# Altium schematic symbol library rs485-422.SchLib: 51 symbols
Pins are listed as number, name and electrical type; pins without a type are passive.

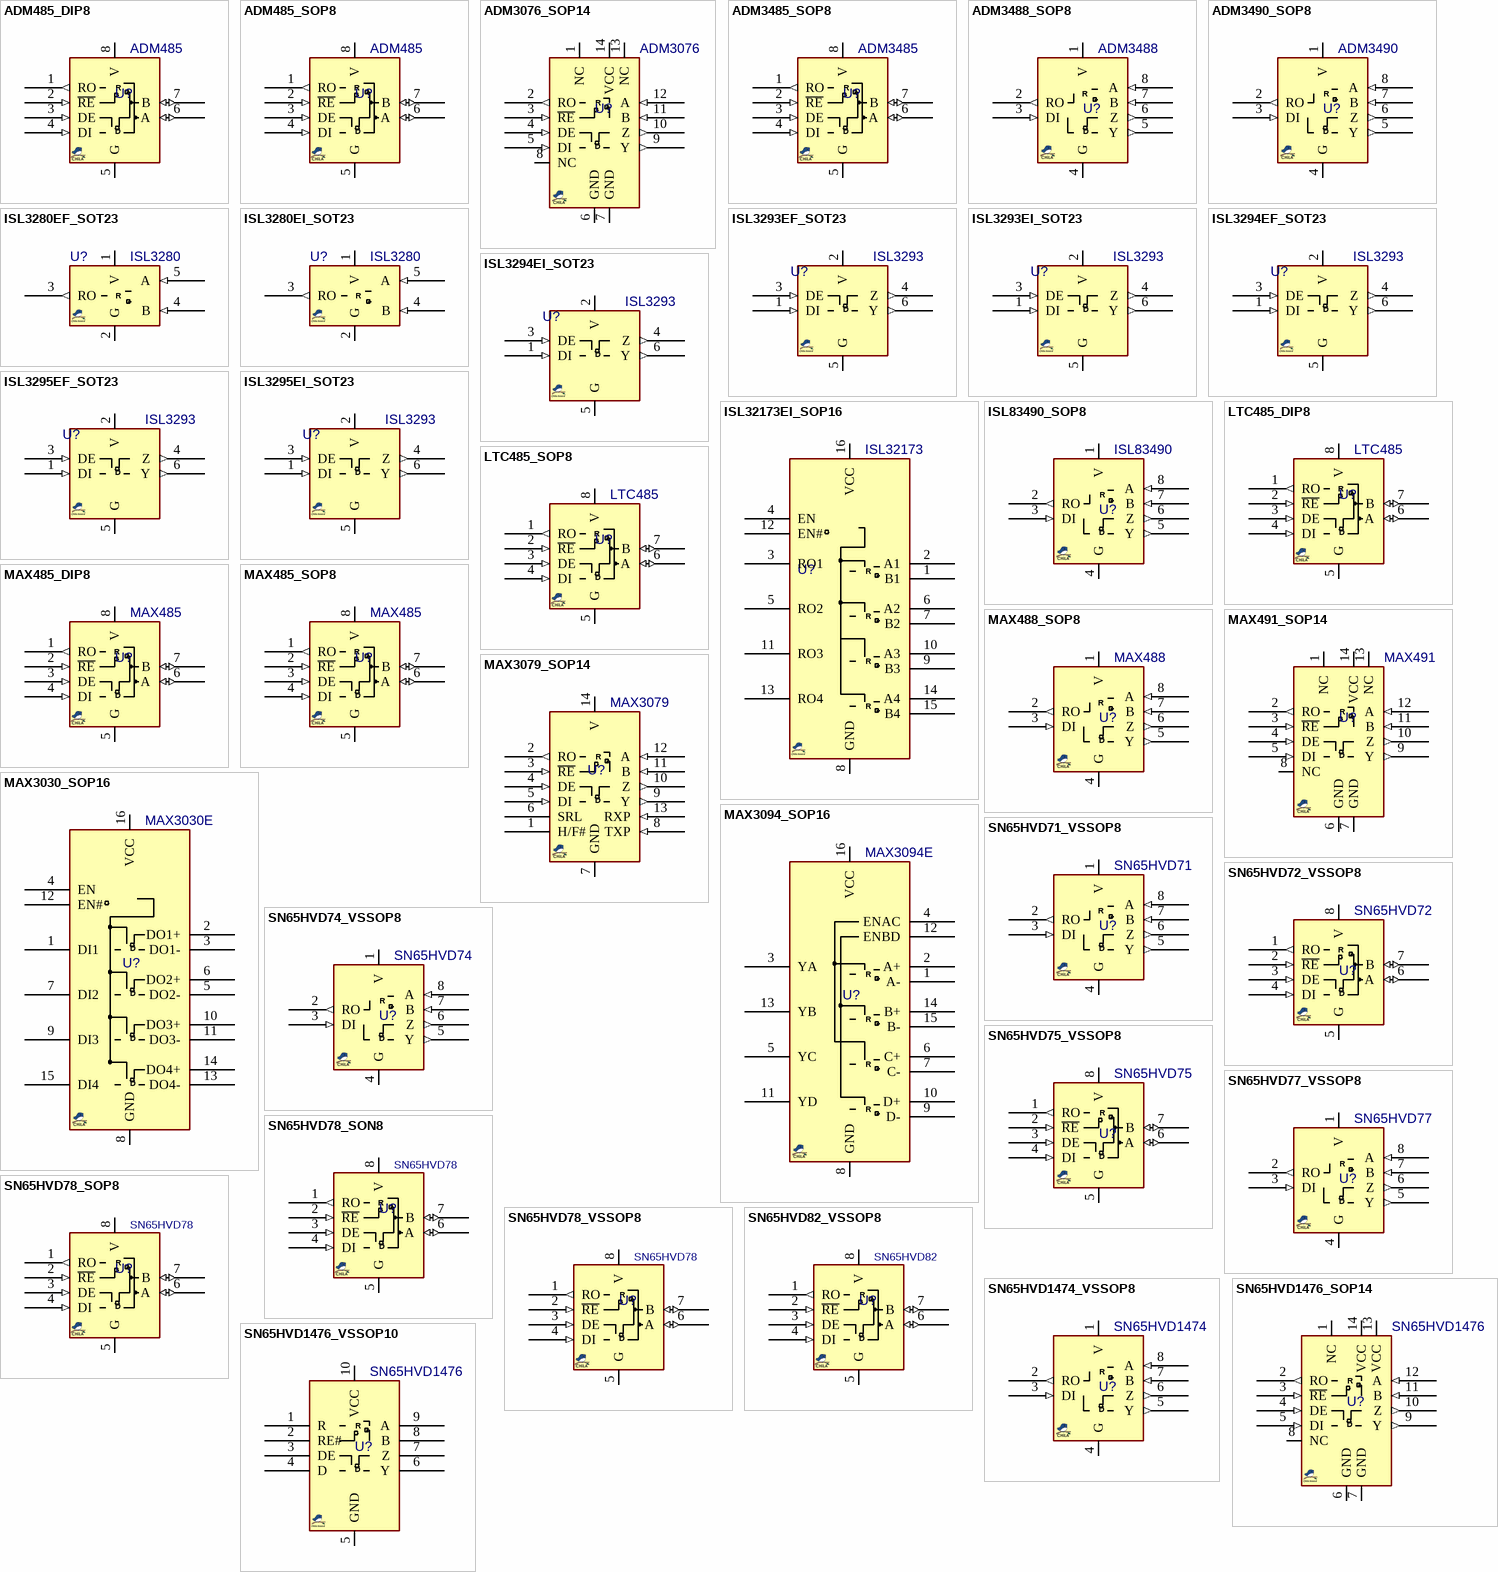
[diagram p0: symbols ADM485_DIP8 to SN65HVD1476_VSSOP10]

## ADM485_DIP8
designator U?, comment ADM485
RS-485 Transceiver, Half-Duplex, 5V, DIP-8, ±7V Ground Difference Between Devices on the Bus; MANF_P#: ADM485AN; MANF: Analog Devices; PARAM: 5Mbps, - , -; PRICE: 4000toman@PAYA; PARAM2: 5v; PACKAGE: DIP-8; VALUE: ADM485
footprint DIP_8 (DIP, pitch 2.54mm, 300mil Width)
pins: 1 RO (out), 2 ~{RE} (in), 3 DE (in), 4 DI (in), 5 G, 6 A (io), 7 B (io), 8 V
text: R; D

## ADM485_SOP8
designator U?, comment ADM485
RS-485 Transceiver, Half-Duplex, 5V, SOP-8, ±7V Ground Difference Between Devices on the Bus; MANF_P#: ADM485AR; MANF: Analog Devices; PARAM: 5Mbps, - , -; PRICE: 4000toman@PAYA; PARAM2: 5v; PACKAGE: SOP-8; VALUE: ADM485
footprint SO_8
pins: 1 RO (out), 2 ~{RE} (in), 3 DE (in), 4 DI (in), 5 G, 6 A (io), 7 B (io), 8 V
text: R; D

## ADM3076_SOP14
designator U?, comment ADM3076
RS-485/RS-422 Transceiver, Full-Duplex; MANF_P#: ADM3076EARZ; MANF: Maxim Integrated; PARAM2: 3.3v, -40~125°C; PARAM: 16Mbps, -, 32nodes; PACKAGE: SOP-14; VALUE: ADM3076
footprint SO_14
pins: 1 NC, 2 RO (out), 3 ~{RE} (in), 4 DE (in), 5 DI (in), 6 GND (power), 7 GND (power), 8 NC, 9 Y (out), 10 Z (out), 11 B (in), 12 A (in), 13 NC, 14 VCC (power)
text: R; D

## ADM3485_SOP8
designator U?, comment ADM3485
RS-485 Transceiver, Half-Duplex, 3.3V; MANF_P#: ADM3485EARZ; MANF: Analog Devices; PARAM: 10Mbps, -, 32nodes, -40~85°C; PRICE: 600toman@PAYA; PARAM2: 3.3v; PACKAGE: SOP-8; VALUE: ADM3485
footprint SO_8
pins: 1 RO (out), 2 ~{RE} (in), 3 DE (in), 4 DI (in), 5 G, 6 A (io), 7 B (io), 8 V
text: R; D

## ADM3488_SOP8
designator U?, comment ADM3488
RS-485/RS-422 Transceiver, Full-Duplex; MANF_P#: ADM3488EARZ; MANF: Analog Devices; PARAM2: 3.3V; PARAM: 250Kbps, -, 32nodes, -40~85°C; PRICE: 16000toman@PAYA; PACKAGE: SOP-8; VALUE: ADM3488
footprint SO_8
pins: 1 V (power), 2 RO (out), 3 DI (in), 4 G (power), 5 Y (out), 6 Z (out), 7 B (in), 8 A (in)
text: R; D

## ADM3490_SOP8
designator U?, comment ADM3490
RS-485/RS-422 Transceiver, Full-Duplex; MANF_P#: ADM3490EARZ; MANF: Analog Devices; PARAM2: 3.3V; PARAM: 10Mbps, -, 32nodes, -40~85°C; PRICE: 3.5$; PACKAGE: SOP-8; VALUE: ADM3490
footprint SO_8
pins: 1 V (power), 2 RO (out), 3 DI (in), 4 G (power), 5 Y (out), 6 Z (out), 7 B (in), 8 A (in)
text: R; D

## ISL3280EF_SOT23
designator U?, comment ISL3280
RS-422 Receiver, -7V~+12V; MANF: Intersil; MANF_P#: ISL3280EFHZ; PARAM2: 3~5.5VCC, -40~125°C; PARAM: 20Mbps, ±16.5kV, 256nodes; PACKAGE: SOT-23-5; VALUE: ISL3280
footprint SOT23_5 (SOT-23-5, SOT25, SOT-25, DBV(R-PDSO-G5), TSOT23-5, SC-74A, SOT23-5, S5-T (LINEAR), MO-178AA, MO-193AB(JEDEC), MF05A (NS), TSOP-6(ON), UJ-5 (AD))
pins: 1 V (power), 2 G (power), 3 RO (out), 4 B (in), 5 A (in)
text: R

## ISL3280EI_SOT23
designator U?, comment ISL3280
RS-422 Receiver, -7V~+12V; MANF: Intersil; MANF_P#: ISL3280EIHZ; PARAM2: 3~5.5VCC, -40~85°C; PARAM: 20Mbps, ±16.5kV, 256nodes; PACKAGE: SOT-23-5; VALUE: ISL3280
footprint SOT23_5 (SOT-23-5, SOT25, SOT-25, DBV(R-PDSO-G5), TSOT23-5, SC-74A, SOT23-5, S5-T (LINEAR), MO-178AA, MO-193AB(JEDEC), MF05A (NS), TSOP-6(ON), UJ-5 (AD))
pins: 1 V (power), 2 G (power), 3 RO (out), 4 B (in), 5 A (in)
text: R

## ISL3293EF_SOT23
designator U?, comment ISL3293
RS-422 Transmitter, -7~+12V, 0.25Mbps; MANF: Intersil; MANF_P#: ISL3293EFHZ; PARAM2: 3~5.5VCC, -40~125°C; PARAM: 0.25Mbps, ±16.5kV, 256nodes; PACKAGE: SOT-23-6; VALUE: ISL3293
footprint SOT23_6 (SOT-23-6, MICRO6, SOT-26, SOT457, SuperSOT6, TSOP-6, HMC313, MO-178AB, MO-193AA, TSOT)
pins: 1 DI (in), 2 V (power), 3 DE (in), 4 Z (out), 5 G (power), 6 Y (out)
text: D

## ISL3293EI_SOT23
designator U?, comment ISL3293
RS-422 Transmitter, -7~+12V, 0.25Mbps; MANF: Intersil; MANF_P#: ISL3293EIHZ; PARAM2: 3~5.5VCC, -40~85°C; PARAM: 0.25Mbps, ±16.5kV, 256nodes; PACKAGE: SOT-23-6; VALUE: ISL3293
footprint SOT23_6 (SOT-23-6, MICRO6, SOT-26, SOT457, SuperSOT6, TSOP-6, HMC313, MO-178AB, MO-193AA, TSOT)
pins: 1 DI (in), 2 V (power), 3 DE (in), 4 Z (out), 5 G (power), 6 Y (out)
text: D

## ISL3294EF_SOT23
designator U?, comment ISL3293
RS-422 Transmitter, -7~+12V, 0.5Mbps; MANF: Intersil; MANF_P#: ISL3294EFHZ; PARAM2: 3~5.5VCC, -40~125°C; PARAM: 0.5Mbps, ±16.5kV, 256nodes; PACKAGE: SOT-23-6; VALUE: ISL3293
footprint SOT23_6 (SOT-23-6, MICRO6, SOT-26, SOT457, SuperSOT6, TSOP-6, HMC313, MO-178AB, MO-193AA, TSOT)
pins: 1 DI (in), 2 V (power), 3 DE (in), 4 Z (out), 5 G (power), 6 Y (out)
text: D

## ISL3294EI_SOT23
designator U?, comment ISL3293
RS-422 Transmitter, -7~+12V, 0.5Mbps; MANF: Intersil; MANF_P#: ISL3294EIHZ; PARAM2: 3~5.5VCC, -40~85°C; PARAM: 0.5Mbps, ±16.5kV, 256nodes; PACKAGE: SOT-23-6; VALUE: ISL3293
footprint SOT23_6 (SOT-23-6, MICRO6, SOT-26, SOT457, SuperSOT6, TSOP-6, HMC313, MO-178AB, MO-193AA, TSOT)
pins: 1 DI (in), 2 V (power), 3 DE (in), 4 Z (out), 5 G (power), 6 Y (out)
text: D

## ISL3295EF_SOT23
designator U?, comment ISL3293
RS-422 Transmitter, -7~+12V, 20Mbps; MANF: Intersil; MANF_P#: ISL3295EFHZ; PARAM2: 3~5.5VCC, -40~125°C; PARAM: 20Mbps, ±16.5kV, 256nodes; PACKAGE: SOT-23-6; VALUE: ISL3293
footprint SOT23_6 (SOT-23-6, MICRO6, SOT-26, SOT457, SuperSOT6, TSOP-6, HMC313, MO-178AB, MO-193AA, TSOT)
pins: 1 DI (in), 2 V (power), 3 DE (in), 4 Z (out), 5 G (power), 6 Y (out)
text: D

## ISL3295EI_SOT23
designator U?, comment ISL3293
RS-422 Transmitter, -7~+12V, 20Mbps; MANF: Intersil; MANF_P#: ISL3295EIHZ; PARAM2: 3~5.5VCC, -40~85°C; PARAM: 20Mbps, ±16.5kV, 256nodes; PACKAGE: SOT-23-6; VALUE: ISL3293
footprint SOT23_6 (SOT-23-6, MICRO6, SOT-26, SOT457, SuperSOT6, TSOP-6, HMC313, MO-178AB, MO-193AA, TSOT)
pins: 1 DI (in), 2 V (power), 3 DE (in), 4 Z (out), 5 G (power), 6 Y (out)
text: D

## ISL32173EI_SOP16
designator U?, comment ISL32173
RS-422 Quad Receiver, -7~+12V, 20Mbps; MANF: Intersil; MANF_P#: ISL32173EIBZ; PARAM2: 3~5.5VCC, -40~85°C; PARAM: 80Mbps, ±16.5kV, 128nodes; PACKAGE: SOP-16; VALUE: ISL32173
footprint SOT23_6 (SOT-23-6, MICRO6, SOT-26, SOT457, SuperSOT6, TSOP-6, HMC313, MO-178AB, MO-193AA, TSOT)
pins: 1 B1, 2 A1, 3 RO1, 4 EN, 5 RO2, 6 A2, 7 B2, 8 GND, 9 B3, 10 A3, 11 RO3, 12 EN#, 13 RO4, 14 A4, 15 B4, 16 VCC
text: R

## ISL83490_SOP8
designator U?, comment ISL83490
RS-485/RS-422 Transceiver, Full-Duplex; MANF_P#: ISL83490IBZ; MANF: Renesas; PARAM2: 3.3V, -40~85°C; PARAM: 10Mbps, -, 32nodes; PRICE: 1$; PACKAGE: SOP-8; VALUE: ISL83490
footprint SO_8
pins: 1 V (power), 2 RO (out), 3 DI (in), 4 G (power), 5 Y (out), 6 Z (out), 7 B (in), 8 A (in)
text: R; D

## LTC485_DIP8
designator U?, comment LTC485
RS-485 Transceiver, Half-Duplex, 5V, DIP-8, ±7V Ground Difference Between Devices on the Bus; MANF_P#: LTC485CN8; MANF: Linear Technology.; PARAM2: 5v, -40~85°C; PARAM: 2.5Mbps, -, 32nodes; PRICE: 10,000toman@PAYA; PACKAGE: DIP-8; VALUE: LTC485
footprint DIP_8 (DIP, pitch 2.54mm, 300mil Width)
pins: 1 RO (out), 2 ~{RE} (in), 3 DE (in), 4 DI (in), 5 G, 6 A (io), 7 B (io), 8 V
text: R; D

## LTC485_SOP8
designator U?, comment LTC485
RS-485 Transceiver, Half-Duplex, 5V, SOP-8, ±7V Ground Difference Between Devices on the Bus; MANF_P#: LTC485CS8; MANF: Linear Technology.; PARAM2: 5v, -40~85°C; PARAM: 2.5Mbps, -, 32nodes; PRICE: 3500toman@PAYA; PACKAGE: SOP-8; VALUE: LTC485
footprint SO_8
pins: 1 RO (out), 2 ~{RE} (in), 3 DE (in), 4 DI (in), 5 G, 6 A (io), 7 B (io), 8 V
text: R; D

## MAX485_DIP8
designator U?, comment MAX485
RS-485 Transceiver, Half-Duplex, 5V, DIP-8, ±7V Ground Difference Between Devices on the Bus; MANF_P#: MAX485EPA; MANF: Maxim Integrated; PARAM2: 5v, -40~85°C; PARAM: 2.5Mbps, -, 32nodes; PRICE: 700toman@PAYA; PACKAGE: DIP-8; VALUE: MAX485
footprint DIP_8 (DIP, pitch 2.54mm, 300mil Width)
pins: 1 RO (out), 2 ~{RE} (in), 3 DE (in), 4 DI (in), 5 G, 6 A (io), 7 B (io), 8 V
text: R; D

## MAX485_SOP8
designator U?, comment MAX485
RS-485 Transceiver, Half-Duplex, 5V, SOP-8, ±7V Ground Difference Between Devices on the Bus; MANF_P#: MAX485ESA; MANF: Maxim Integrated; PARAM2: 5v, -40~85°C; PARAM: 2.5Mbps, -, 32nodes; PRICE: 700toman@PAYA; PACKAGE: SOP-8; VALUE: MAX485
footprint SO_8
pins: 1 RO (out), 2 ~{RE} (in), 3 DE (in), 4 DI (in), 5 G, 6 A (io), 7 B (io), 8 V
text: R; D

## MAX488_SOP8
designator U?, comment MAX488
RS-485/RS-422 Transceiver, Full-Duplex; MANF_P#: MAX488ESA; MANF: Maxim Integrated; PARAM2: 5v, -40~85°C; PARAM: 0.25Mbps, -, 32nodes; PRICE: 2000toman@PAYA; PACKAGE: SOP-8; VALUE: MAX488
footprint SO_8
pins: 1 V (power), 2 RO (out), 3 DI (in), 4 G (power), 5 Y (out), 6 Z (out), 7 B (in), 8 A (in)
text: R; D

## MAX491_SOP14
designator U?, comment MAX491
RS-485/RS-422 Transceiver, Full-Duplex; MANF_P#: MAX491ESD; MANF: Maxim Integrated; PARAM2: 5v, -40~85°C; PARAM: 2.5Mbps, -, 32nodes; PACKAGE: SOP-14; VALUE: MAX491
footprint SO_14
pins: 1 NC, 2 RO (out), 3 ~{RE} (in), 4 DE (in), 5 DI (in), 6 GND (power), 7 GND (power), 8 NC, 9 Y (out), 10 Z (out), 11 B (in), 12 A (in), 13 NC, 14 VCC (power)
text: R; D

## MAX3030_SOP16
designator U?, comment MAX3030E
RS-422 Quad Transmitter; MANF: Maxim Integrated; MANF_P#: MAX3030EESE+; PARAM2: 3.3VCC, -40~85°C; PARAM: 20Mbps, ±15kV ESD-Protected; PRICE: -; PACKAGE: SOP-16; VALUE: MAX3030E
footprint SO_16 (SOP, SOIC, 3.9mm width, 1.27mm pitch,)
pins: 1 DI1, 2 DO1+, 3 DO1-, 4 EN, 5 DO2-, 6 DO2+, 7 DI2, 8 GND, 9 DI3, 10 DO3+, 11 DO3-, 12 EN#, 13 DO4-, 14 DO4+, 15 DI4, 16 VCC
text: D

## MAX3079_SOP14
designator U?, comment MAX3079
RS-485/RS-422 Transceiver, Full-Duplex; MANF: Maxim Integrated; MANF_P#: MAX3079EASD; PARAM: 16Mbps, ±15kV ESD-Pr, 256nodes; PRICE: 6000toman@PAYA; PACKAGE: SOP-14; VALUE: MAX3079
footprint SO_14
pins: 1 H/F#, 2 RO (out), 3 ~{RE} (in), 4 DE (in), 5 DI (in), 6 SRL, 7 GND (power), 8 TXP (in), 9 Y (out), 10 Z (out), 11 B (in), 12 A (in), 13 RXP (in), 14 V (power)
text: R; D

## MAX3094_SOP16
designator U?, comment MAX3094E
RS-422 Quad Receiver; MANF: Maxim Integrated; MANF_P#: MAX3094EESE+; PARAM2: +3v; PARAM: 10Mbps, ±15kV air, ±8kV contact, 128nodes; PRICE: -; PACKAGE: SOP-16; VALUE: MAX3094E
footprint SO_16 (SOP, SOIC, 3.9mm width, 1.27mm pitch,)
pins: 1 A-, 2 A+, 3 YA, 4 ENAC, 5 YC, 6 C+, 7 C-, 8 GND, 9 D-, 10 D+, 11 YD, 12 ENBD, 13 YB, 14 B+, 15 B-, 16 VCC
text: R

## SN65HVD71_VSSOP8
designator U?, comment SN65HVD71
RS-485/RS-422 Transceiver, Full-Duplex; MANF_P#: SN65HVD71DGK; MANF: Texas Instruments; PARAM2: 3.3V; PARAM: 400kbps, ±12kV ESD; PRICE: 4.2$; PACKAGE: VSSOP-8; VALUE: SN65HVD71
footprint SOG65_8_3 (TSSOP8, MICRO8,  DGK VSSOP-8, MSOP8,   RM-8, MS8, MSOP-8, TSSO3X5-G8/D3.1, 8 uMAX, usop8/8uSOP, MO-187AA, MO-153AA, SSOP DCT SM8 (TI), pitch: 0.65mm, 3.0mmX3.0mm)
pins: 1 V (power), 2 RO (out), 3 DI (in), 4 G (power), 5 Y (out), 6 Z (out), 7 B (in), 8 A (in)
text: R; D

## SN65HVD72_VSSOP8
designator U?, comment SN65HVD72
RS-485 Transceiver, Half-Duplex; MANF_P#: SN65HVD72DGK; MANF: Texas Instruments; PARAM2: 3.3/5v; PARAM: 250kbps, 213nodes, ±12kV ESD; PRICE: 4.2$; PACKAGE: VSSOP-8; VALUE: SN65HVD72
footprint SOG65_8_3 (TSSOP8, MICRO8,  DGK VSSOP-8, MSOP8,   RM-8, MS8, MSOP-8, TSSO3X5-G8/D3.1, 8 uMAX, usop8/8uSOP, MO-187AA, MO-153AA, SSOP DCT SM8 (TI), pitch: 0.65mm, 3.0mmX3.0mm)
pins: 1 RO (out), 2 ~{RE} (in), 3 DE (in), 4 DI (in), 5 G (power), 6 A (io), 7 B (io), 8 V (power)
text: R; D

## SN65HVD74_VSSOP8
designator U?, comment SN65HVD74
RS-485/RS-422 Transceiver, Full-Duplex; MANF_P#: SN65HVD74DGK; MANF: Texas Instruments; PARAM2: 3.3V; PARAM: 20Mbps, ±12kV ESD; PRICE: 4.5$; PACKAGE: VSSOP-8; VALUE: SN65HVD74
footprint SOG65_8_3 (TSSOP8, MICRO8,  DGK VSSOP-8, MSOP8,   RM-8, MS8, MSOP-8, TSSO3X5-G8/D3.1, 8 uMAX, usop8/8uSOP, MO-187AA, MO-153AA, SSOP DCT SM8 (TI), pitch: 0.65mm, 3.0mmX3.0mm)
pins: 1 V (power), 2 RO (out), 3 DI (in), 4 G (power), 5 Y (out), 6 Z (out), 7 B (in), 8 A (in)
text: R; D

## SN65HVD75_VSSOP8
designator U?, comment SN65HVD75
RS-485 Transceiver, Half-Duplex; MANF_P#: SN65HVD75DGK; MANF: Texas Instruments; PARAM2: 3.3/5v; PARAM: 20Mbps, 213nodes, ±12kV ESD; PRICE: 4.2$; PACKAGE: VSSOP-8; VALUE: SN65HVD75
footprint SOG65_8_3 (TSSOP8, MICRO8,  DGK VSSOP-8, MSOP8,   RM-8, MS8, MSOP-8, TSSO3X5-G8/D3.1, 8 uMAX, usop8/8uSOP, MO-187AA, MO-153AA, SSOP DCT SM8 (TI), pitch: 0.65mm, 3.0mmX3.0mm)
pins: 1 RO (out), 2 ~{RE} (in), 3 DE (in), 4 DI (in), 5 G (power), 6 A (io), 7 B (io), 8 V (power)
text: R; D

## SN65HVD77_VSSOP8
designator U?, comment SN65HVD77
RS-485/RS-422 Transceiver, Full-Duplex; MANF_P#: SN65HVD77DGK; MANF: Texas Instruments; PARAM2: 3.3V; PARAM: 50Mbps, ±12kV ESD; PRICE: 4.5$; PACKAGE: VSSOP-8; VALUE: SN65HVD77
footprint SOG65_8_3 (TSSOP8, MICRO8,  DGK VSSOP-8, MSOP8,   RM-8, MS8, MSOP-8, TSSO3X5-G8/D3.1, 8 uMAX, usop8/8uSOP, MO-187AA, MO-153AA, SSOP DCT SM8 (TI), pitch: 0.65mm, 3.0mmX3.0mm)
pins: 1 V (power), 2 RO (out), 3 DI (in), 4 G (power), 5 Y (out), 6 Z (out), 7 B (in), 8 A (in)
text: R; D

## SN65HVD78_SON8
designator U?, comment SN65HVD78
RS-485 Transceiver, Half-Duplex, 3.3V; MANF_P#: SN65HVD78DRB; MANF: TI; PARAM2: 3.3V, -40~125°C; PARAM: 50Mbps, ±12kV, 96nodes; PRICE: 2.8$; PACKAGE: SON-8; VALUE: SN65HVD78
footprint SON65_8T_3030 (DRB PVSON8 (TI), 3.00x3.00mm, Pitch 0.65mm)
pins: 1 RO (out), 2 ~{RE} (in), 3 DE (in), 4 DI (in), 5 G, 6 A (io), 7 B (io), 8 V
text: R; D

## SN65HVD78_SOP8
designator U?, comment SN65HVD78
RS-485 Transceiver, Half-Duplex, 3.3V; MANF_P#: SN65HVD78D; MANF: TI; PARAM2: 3.3V, -40~125°C; PARAM: 50Mbps, ±12kV, 96nodes; PRICE: 2.8$; PACKAGE: SOP-8; VALUE: SN65HVD78
footprint SO_8 (SOP-8, 5x3.9mm body 1.27mm pitch, SOT96-1, M08A, S8, SOIC8, VO8, MS-012AA(JEDEC), R-8, 8S2, VOG8)
pins: 1 RO (out), 2 ~{RE} (in), 3 DE (in), 4 DI (in), 5 G, 6 A (io), 7 B (io), 8 V
text: R; D

## SN65HVD78_VSSOP8
designator U?, comment SN65HVD78
RS-485 Transceiver, Half-Duplex, 3.3V; MANF_P#: SN65HVD78DGK; MANF: TI; PARAM2: 3.3V, -40~125°C; PARAM: 50Mbps, ±12kV ESD, 96nodes; PRICE: 2.8$; PACKAGE: VSSOP-8; VALUE: SN65HVD78
footprint SOG65_8_3 (TSSOP8, MICRO8, DGK VSSOP-8, pitch: 0.65mm, 3X3mm, MSOP8, RM-8, MS8, MSOP-8, TSSO3X5-G8/D3.1, 8 uMAX, usop8/8uSOP, MO-187AA, MO-153AA, SSOP DCT (TI))
pins: 1 RO (out), 2 ~{RE} (in), 3 DE (in), 4 DI (in), 5 G, 6 A (io), 7 B (io), 8 V
text: R; D

## SN65HVD82_VSSOP8
designator U?, comment SN65HVD82
RS-485 Transceiver, Half-Duplex; MANF_P#: SN65HVD82DGK; MANF: Texas Instruments; PARAM2: 5v, -40~85°C; PARAM: 0.25Mbps, 32nodes, ±16kV ESD; PRICE: 4.2$; PACKAGE: VSSOP-8; VALUE: SN65HVD82
footprint SOG65_8_3 (TSSOP8, MICRO8,  DGK VSSOP-8, MSOP8,   RM-8, MS8, MSOP-8, TSSO3X5-G8/D3.1, 8 uMAX, usop8/8uSOP, MO-187AA, MO-153AA, SSOP DCT SM8 (TI), pitch: 0.65mm, 3.0mmX3.0mm)
pins: 1 RO (out), 2 ~{RE} (in), 3 DE (in), 4 DI (in), 5 G (power), 6 A (io), 7 B (io), 8 V (power)
text: R; D

## SN65HVD1474_VSSOP8
designator U?, comment SN65HVD1474
RS-485/RS-422 Transceiver, Full-Duplex; MANF_P#: SN65HVD1474DGK; MANF: Texas Instruments; PARAM2: 3.3V, -40~125°C; PARAM: 20Mbps, ±16kV ESD, 256nodes; PRICE: 4.5$; PACKAGE: VSSOP-8; VALUE: SN65HVD1474
footprint SOG65_8_3 (TSSOP8, MICRO8,  DGK VSSOP-8, MSOP8,   RM-8, MS8, MSOP-8, TSSO3X5-G8/D3.1, 8 uMAX, usop8/8uSOP, MO-187AA, MO-153AA, SSOP DCT SM8 (TI), pitch: 0.65mm, 3.0mmX3.0mm)
pins: 1 V (power), 2 RO (out), 3 DI (in), 4 G (power), 5 Y (out), 6 Z (out), 7 B (in), 8 A (in)
text: R; D

## SN65HVD1476_SOP14
designator U?, comment SN65HVD1476
RS-485/RS-422 Transceiver, Full-Duplex; MANF_P#: SN65HVD1476DR; MANF: Texas Instruments; PARAM2: 3.3V, -40~125°C; PARAM: 50Mbps, ±16kV ESD, 96nodes; PRICE: 4.5$; PACKAGE: SOP-14; VALUE: SN65HVD1476
footprint SO_14 (SOP, SOIC, 3.9mm width, 1.27mm pitch,)
pins: 1 NC, 2 RO (out), 3 ~{RE} (in), 4 DE (in), 5 DI (in), 6 GND (power), 7 GND (power), 8 NC, 9 Y (out), 10 Z (out), 11 B (in), 12 A (in), 13 VCC, 14 VCC (power)
text: R; D

## SN65HVD1476_VSSOP10
designator U?, comment SN65HVD1476
RS-485/RS-422 Transceiver, Full-Duplex; MANF_P#: SN65HVD1476DGS; MANF: Texas Instruments; PARAM2: 3.3V, -40~125°C; PARAM: 50Mbps, ±16kV ESD, 96nodes; PRICE: 4.5$; PACKAGE: VSSOP-10; VALUE: SN65HVD1476
footprint SOG50_10 (MSSOP10, 3X3mm 0.5mm pitch, DGS, MSOP10, 10uSOP/usop10 (Dallas), MO-187BA(JEDEC))
pins: 1 R, 2 RE#, 3 DE, 4 D, 5 GND, 6 Y, 7 Z, 8 B, 9 A, 10 VCC

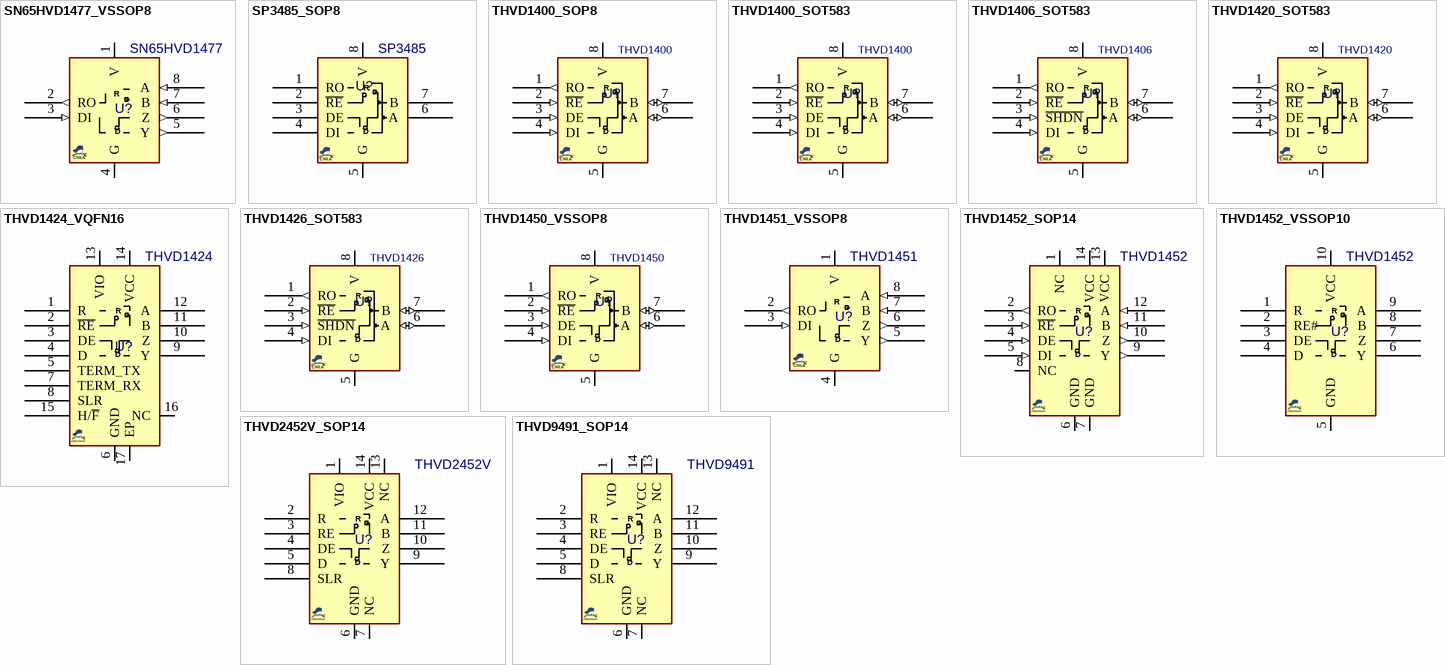
[diagram p1: symbols SN65HVD1477_VSSOP8 to THVD9491_SOP14]

## SN65HVD1477_VSSOP8
designator U?, comment SN65HVD1477
RS-485/RS-422 Transceiver, Full-Duplex; MANF_P#: SN65HVD1477DGK; MANF: Texas Instruments; PARAM2: 3.3V, -40~125°C; PARAM: 50Mbps, ±16kV ESD, 256nodes; PRICE: 4.5$; PACKAGE: VSSOP-8; VALUE: SN65HVD1477
footprint SOG65_8_3 (TSSOP8, MICRO8,  DGK VSSOP-8, MSOP8,   RM-8, MS8, MSOP-8, TSSO3X5-G8/D3.1, 8 uMAX, usop8/8uSOP, MO-187AA, MO-153AA, SSOP DCT SM8 (TI), pitch: 0.65mm, 3.0mmX3.0mm)
pins: 1 V (power), 2 RO (out), 3 DI (in), 4 G (power), 5 Y (out), 6 Z (out), 7 B (in), 8 A (in)
text: R; D

## SP3485_SOP8
designator U?, comment SP3485
RS-485 Transceiver, Half-Duplex, 3.3V; MANF: Exar/Maxlinear; PARAM: 10Mbps, 32nodes; MANF_P#: SP3485; PRICE: 2.5$@MOUSER; PARAM2: 3.3v; PACKAGE: SOP-8; VALUE: SP3485
footprint SO_8
pins: 1 RO, 2 ~{RE}, 3 DE, 4 DI, 5 G, 6 A, 7 B, 8 V
text: R; D

## THVD1400_SOP8
designator U?, comment THVD1400
RS-485 Transceiver, Half-Duplex; MANF_P#: THVD1400DR; MANF: Texas Instruments; PARAM2: 3~5.5v, -40~125°C; PARAM: 0.5Mbps, ±16kV ESD, 256nodes; PRICE: 0.3$; PACKAGE: SOP-8; VALUE: THVD1400
footprint SO_8 (SOP-8, 5x3.9mm body 1.27mm pitch, SOT96-1, M08A, S8, SOIC8, VO8, MS-012AA(JEDEC), R-8, 8S2, VOG8)
pins: 1 RO (out), 2 ~{RE} (in), 3 DE (in), 4 DI (in), 5 G (power), 6 A (io), 7 B (io), 8 V (power)
text: R; D

## THVD1400_SOT583
designator U?, comment THVD1400
RS-485 Transceiver, Half-Duplex; MANF_P#: THVD1400DRL; MANF: Texas Instruments; PARAM2: 3~5.5v, -40~125°C; PARAM: 0.5Mbps, ±16kV ESD, 256nodes; PRICE: 4.2$; PACKAGE: SOT-583; VALUE: THVD1400
footprint SOT583_8 (SOT-583, DRL, 8 LEAD, Body 1.2x2.1mm, Pitch 0.50mm)
pins: 1 RO (out), 2 ~{RE} (in), 3 DE (in), 4 DI (in), 5 G (power), 6 A (io), 7 B (io), 8 V (power)
text: R; D

## THVD1406_SOT583
designator U?, comment THVD1406
RS-485 Transceiver, Half-Duplex; MANF_P#: THVD1406DRL; MANF: Texas Instruments; PARAM2: 3~5.5v, -40~125°C; PARAM: 0.5Mbps, ±16kV ESD, 256nodes; PRICE: 4.2$; PACKAGE: SOT-583; VALUE: THVD1406
footprint SOT583_8 (SOT-583, DRL, 8 LEAD, Body 1.2x2.1mm, Pitch 0.50mm)
pins: 1 RO (out), 2 ~{RE} (in), 3 ~{SHDN} (in), 4 DI (in), 5 G (power), 6 A (io), 7 B (io), 8 V (power)
text: R; D

## THVD1420_SOT583
designator U?, comment THVD1420
RS-485 Transceiver, Half-Duplex; MANF_P#: THVD1420DRL; MANF: Texas Instruments; PARAM2: 3~5.5v, -40~125°C; PARAM: 12Mbps, ±16kV ESD, 256nodes; PRICE: 4.2$; PACKAGE: SOT-583; VALUE: THVD1420
footprint SOT583_8 (SOT-583, DRL, 8 LEAD, Body 1.2x2.1mm, Pitch 0.50mm)
pins: 1 RO (out), 2 ~{RE} (in), 3 DE (in), 4 DI (in), 5 G (power), 6 A (io), 7 B (io), 8 V (power)
text: R; D

## THVD1424_VQFN16
designator U?, comment THVD1424
RS-485/RS-422 Transceiver, Full-Half Config; MANF_P#: THVD1424RGTR; MANF: Texas Instruments; PARAM2: 3~5.5V, -40~125°C; PARAM: 20Mbps, ±16kV ESD; PRICE: 2$; PACKAGE: VQFN-16 RGT; VALUE: THVD1424
footprint QFN50_16T_3X3 (RGT PVQFN (TI), 16-lead, pitch: 0.5mm, 3x3mm)
pins: 1 R, 2 ~{RE}, 3 DE, 4 D, 5 TERM_TX, 6 GND, 7 TERM_RX, 8 SLR, 9 Y, 10 Z, 11 B, 12 A, 13 VIO, 14 VCC, 15 H/~{F}, 16 NC, 17 EP

## THVD1426_SOT583
designator U?, comment THVD1426
RS-485 Transceiver, Half-Duplex; MANF_P#: THVD1426DRL; MANF: Texas Instruments; PARAM2: 3~5.5v, -40~125°C; PARAM: 12Mbps, ±16kV ESD, 256nodes; PRICE: 4.2$; PACKAGE: SOT-583; VALUE: THVD1426
footprint SOT583_8 (SOT-583, DRL, 8 LEAD, Body 1.2x2.1mm, Pitch 0.50mm)
pins: 1 RO (out), 2 ~{RE} (in), 3 ~{SHDN} (in), 4 DI (in), 5 G (power), 6 A (io), 7 B (io), 8 V (power)
text: R; D

## THVD1450_VSSOP8
designator U?, comment THVD1450
RS-485 Transceiver, Half-Duplex; MANF_P#: THVD1450DGK; MANF: Texas Instruments; PARAM2: 3~5.5v, -40~125°C; PARAM: 50Mbps, ±18kV ESD, 256nodes; PRICE: 4.2$; PACKAGE: VSSOP-8; VALUE: THVD1450
footprint SOG65_8_3 (TSSOP8, MICRO8, DGK VSSOP-8, pitch: 0.65mm, 3X3mm, MSOP8, RM-8, MS8, MSOP-8, TSSO3X5-G8/D3.1, 8 uMAX, usop8/8uSOP, MO-187AA, MO-153AA, SSOP DCT (TI))
pins: 1 RO (out), 2 ~{RE} (in), 3 DE (in), 4 DI (in), 5 G (power), 6 A (io), 7 B (io), 8 V (power)
text: R; D

## THVD1451_VSSOP8
designator U?, comment THVD1451
RS-485/RS-422 Transceiver, Full-Duplex; MANF_P#: THVD1451DGK; MANF: Texas Instruments; PARAM2: 3~5.5V, -40~125°C; PARAM: 50Mbps, ±18kV ESD, 256nodes; PRICE: 4.5$; PACKAGE: VSSOP-8; VALUE: THVD1451
footprint SOG65_8_3 (TSSOP8, MICRO8,  DGK VSSOP-8, MSOP8,   RM-8, MS8, MSOP-8, TSSO3X5-G8/D3.1, 8 uMAX, usop8/8uSOP, MO-187AA, MO-153AA, SSOP DCT SM8 (TI), pitch: 0.65mm, 3.0mmX3.0mm)
pins: 1 V (power), 2 RO (out), 3 DI (in), 4 G (power), 5 Y (out), 6 Z (out), 7 B (in), 8 A (in)
text: R; D

## THVD1452_SOP14
designator U?, comment THVD1452
RS-485/RS-422 Transceiver, Full-Duplex; MANF_P#: THVD1452DR; MANF: Texas Instruments; PARAM2: 3~5.5V, -40~125°C; PARAM: 50Mbps, ±18kV ESD, 256nodes; PRICE: 4.5$; PACKAGE: SOP-14; VALUE: THVD1452
footprint SO_14 (SOP, SOIC, 3.9mm width, 1.27mm pitch,)
pins: 1 NC, 2 RO (out), 3 ~{RE} (in), 4 DE (in), 5 DI (in), 6 GND (power), 7 GND (power), 8 NC, 9 Y (out), 10 Z (out), 11 B (in), 12 A (in), 13 VCC, 14 VCC (power)
text: R; D

## THVD1452_VSSOP10
designator U?, comment THVD1452
RS-485/RS-422 Transceiver, Full-Duplex; MANF_P#: THVD1452DGS; MANF: Texas Instruments; PARAM2: 3~5.5V, -40~125°C; PARAM: 50Mbps, ±18kV ESD, 256nodes; PRICE: 4.5$; PACKAGE: VSSOP-10; VALUE: THVD1452
footprint SOG50_10 (MSSOP10, 3X3mm 0.5mm pitch, DGS, MSOP10, 10uSOP/usop10 (Dallas), MO-187BA(JEDEC))
pins: 1 R, 2 RE#, 3 DE, 4 D, 5 GND, 6 Y, 7 Z, 8 B, 9 A, 10 VCC

## THVD2452V_SOP14
designator U?, comment THVD2452V
RS-485/RS-422 Transceiver, Full-Duplex, ±70V Fault-Protected; MANF_P#: THVD2452VDR; MANF: Texas Instruments; PARAM2: 3~5.5V, -40~125°C; PARAM: 50Mbps, ±16kV ESD, 256nodes; PRICE: 4.5$; PACKAGE: SOP-14; VALUE: THVD2452V
footprint SO_14 (SOP, SOIC, 3.9mm width, 1.27mm pitch,)
pins: 1 VIO, 2 R, 3 RE, 4 DE, 5 D, 6 GND, 7 NC, 8 SLR, 9 Y, 10 Z, 11 B, 12 A, 13 NC, 14 VCC

## THVD9491_SOP14
designator U?, comment THVD9491
RS-485/RS-422 Transceiver, Full-Duplex, ±70V Fault-Protected; MANF_P#: PTHVD9491DRSEP, THVD9491DTSEP; MANF: Texas Instruments; PARAM2: 3~5.5V, -55~125°C; PARAM: 50Mbps, ±16kV ESD, 256nodes; PRICE: 4.5$; PACKAGE: SOP-14; VALUE: THVD9491
footprint SO_14 (SOP, SOIC, 3.9mm width, 1.27mm pitch,)
pins: 1 VIO, 2 R, 3 RE, 4 DE, 5 D, 6 GND, 7 NC, 8 SLR, 9 Y, 10 Z, 11 B, 12 A, 13 NC, 14 VCC